# Altium footprint library T35-V2.PcbLib: 19 footprints (part 2 of 2)
Each footprint in its own frame and in the unit in brackets; x right, y up, seen from the top. Pads: shape width x height; smd on the part's side, far side on the other; paste and mask are expansions set on the pad; w line width, h text height; cw(c..) or ccw(c..) is an arc to the next point about the centre after c.
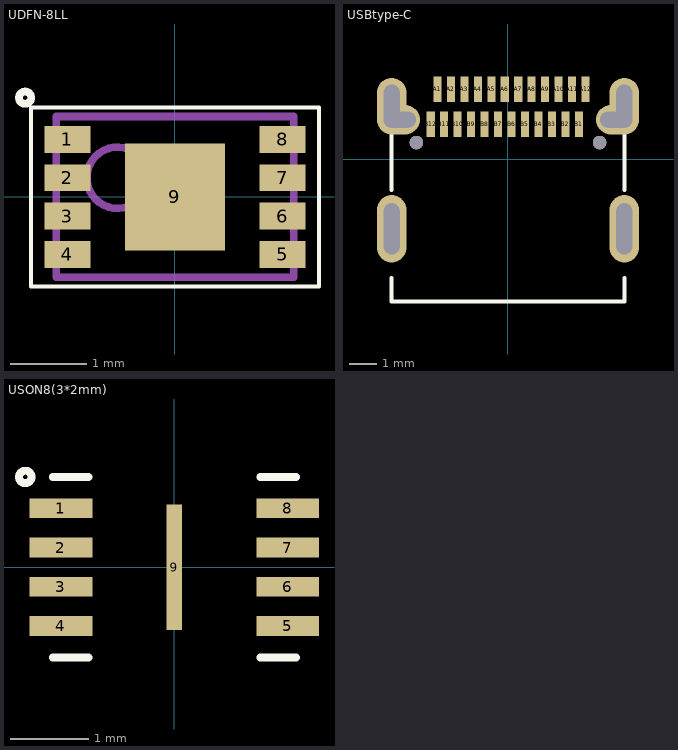
[diagram p1: the footprints below, top view; thin cyan lines are the x and y axes]

## UDFN-8LL [mm] "For B424CA1A-NTRC, PSON, 8-Leads, Body 2.00x3.00mm, Pitch 0.50mm, Thermal Pad 1.40x1.40mm, IPC Medium Density"
height 0.6
pads (9):
  rect 0.6x0.35 smd: 1(-1.405,0.75) 2(-1.405,0.25) 3(-1.405,-0.25) 4(-1.405,-0.75) 5(1.405,-0.75) 6(1.405,-0.25) 7(1.405,0.25) 8(1.405,0.75)
  rect 1.3x1.4 smd: 9(0,0)
Top Overlay:
  circle w0.1: c-1.956,1.295 r0.08
  lines w0.05: -1.88,-1.168 -1.88,1.168 1.88,1.168 1.88,-1.168 -1.88,-1.168
Mechanical 13:
  circle w0.1: c-0.75,0.25 r0.4
  lines w0.1: -1.55,-1.05 -1.55,1.05 1.55,1.05 1.55,-1.05 -1.55,-1.05
3D body "UDFN-8LL.step": height 0.6, standoff 0, extent -1.551,-1.05 1.551,1.05

## USBtype-C [mm]
pads (32):
  rect 0.3x0.95 smd paste+0 mask+0: A1(-2.62,2.588) A2(-2.12,2.588) A3(-1.62,2.588) A4(-1.12,2.588) A5(-0.62,2.588) A6(-0.12,2.588) A7(0.38,2.588) A8(0.88,2.588) A9(1.38,2.588) A10(1.88,2.588) A11(2.38,2.588) A12(2.88,2.588) B1(2.63,1.288) B2(2.13,1.288) B3(1.63,1.288) B4(1.13,1.288) B5(0.63,1.288) B6(0.13,1.288) B7(-0.37,1.288) B8(-0.87,1.288) B9(-1.37,1.288) B10(-1.87,1.288) B11(-2.37,1.288) B12(-2.87,1.288)
  oval 1.1x2.5 hole 0.6 slot 1.9 at 90 deg: ""(-4.32,-2.588) ""(4.32,-2.588)
  oval 1.1x2.1 hole 0.6 slot 1.6 at 90 deg: ""(-4.32,1.963) ""(4.32,1.963)
  oval 1.5x1.1 hole 0.6 slot 1.2 at 0 deg: ""(-4.02,1.462) ""(4.02,1.462)
  round 0.5 hole 0.5 mask+0: ""(-3.4,0.613) ""(3.4,0.613)
Top Overlay:
  lines w0.152: -4.32,-4.419 -4.32,-5.288 4.32,-5.288 4.32,-4.419 ; -4.32,-1.146 -4.32,0.902 ; 4.32,-1.146 4.32,0.902
3D body "c-2345986-1-1-3d.stp": height 3.2, standoff -0.56, extent -4.47,-5.287 4.47,2.813

## USON8(3*2mm) [mm] "for GD25Q32EEIGR, SON, 8-Leads, Body 2.00x3.00mm, Pitch 0.50mm, Thermal Pad 1.60x0.20mm, IPC Medium Density"
height 0.5
pads (9):
  rect 0.8x0.25 smd: 1(-1.445,0.75) 2(-1.445,0.25) 3(-1.445,-0.25) 4(-1.445,-0.75) 5(1.445,-0.75) 6(1.445,-0.25) 7(1.445,0.25) 8(1.445,0.75)
  rect 0.2x1.6 smd: 9(0,0)
Top Overlay:
  circle w0.1: c-1.9,1.15 r0.08
  lines w0.1: -1.55,-1.15 -1.095,-1.15 ; -1.55,1.15 -1.095,1.15 ; 1.095,-1.15 1.55,-1.15 ; 1.095,1.15 1.55,1.15
3D body: height 0.5, standoff 0.05, extent -1.55,-1.05 1.55,1.05